# EAGLE library part UC1843DW (library mytexas)
PULSE WIDTH MODULATOR
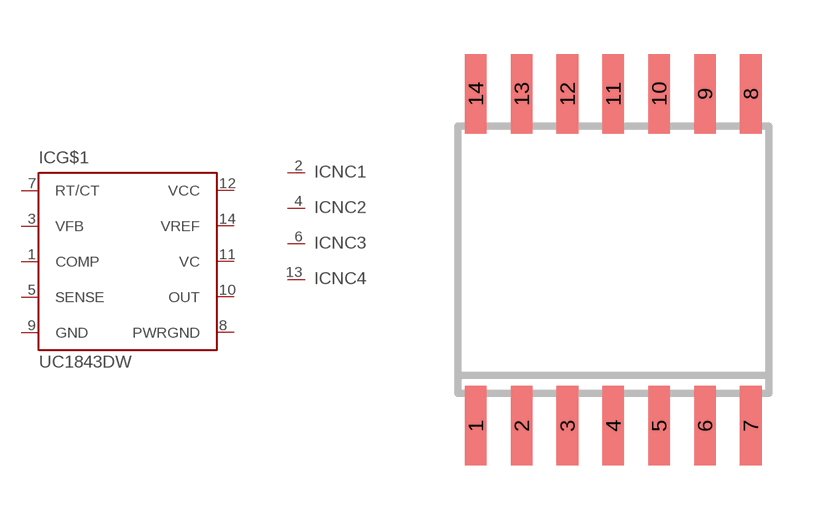
[diagram p16: symbol with the pads of SO-14DW; footprint SO-14DW]

Designator prefix IC; gates G$1=UC1843 NC1=NC NC2=NC NC3=NC NC4=NC

## UC1843DW  [SO-14DW]
1  G$1:COMP  pas
2  NC1:NC  nc
3  G$1:VFB  in
4  NC2:NC  nc
5  G$1:SENSE  in
6  NC3:NC  nc
7  G$1:RT/CT  pas
8  G$1:PWRGND  pwr
9  G$1:GND  pwr
10  G$1:OUT  out
11  G$1:VC  in
12  G$1:VCC  pwr
13  NC4:NC  nc
14  G$1:VREF  out

## Footprint SO-14DW (pad centres in mm)
Small Outline Integrated Circuit wide
smd 0.6 x 2.2: 1 -3.81,-4.6; 2 -2.54,-4.6; 3 -1.27,-4.6; 4 0,-4.6; 5 1.27,-4.6; 6 2.54,-4.6; 7 3.81,-4.6; 8 3.81,4.6; 9 2.54,4.6; 10 1.27,4.6; 11 0,4.6; 12 -1.27,4.6; 13 -2.54,4.6; 14 -3.81,4.6